# Altium footprint library TVSOP-48.PcbLib: 1 footprints
Each footprint in its own frame and in the unit in brackets; x right, y up, seen from the top. Pads: shape width x height; smd on the part's side, far side on the other; paste and mask are expansions set on the pad; w line width, h text height; cw(c..) or ccw(c..) is an arc to the next point about the centre after c.
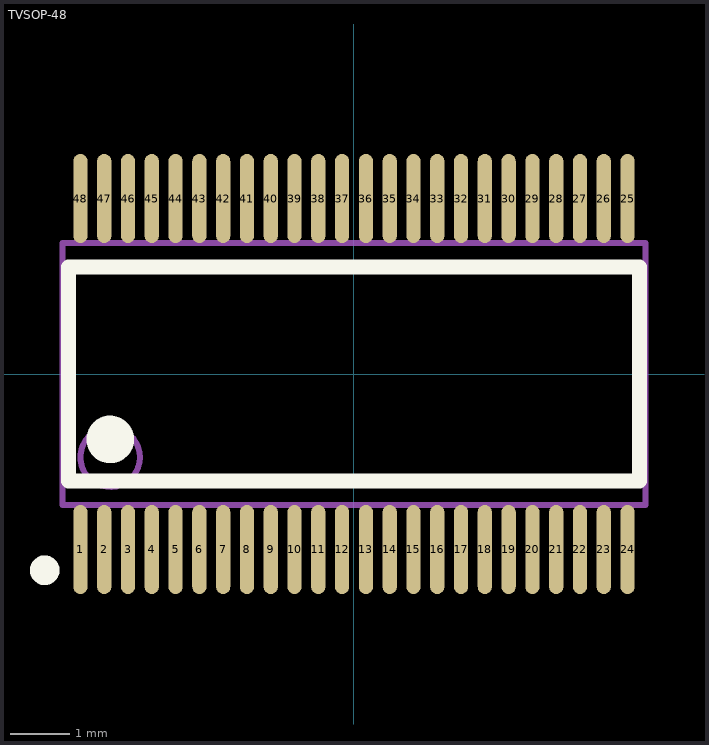
[diagram p0: the footprint, top view; thin cyan lines are the x and y axes]

## TVSOP-48 [mm]
pads (48):
  oval 0.24x1.5 smd mask+0.051: 1(-4.6,-2.95) 2(-4.2,-2.95) 3(-3.8,-2.95) 4(-3.4,-2.95) 5(-3,-2.95) 6(-2.6,-2.95) 7(-2.2,-2.95) 8(-1.8,-2.95) 9(-1.4,-2.95) 10(-1,-2.95) 11(-0.6,-2.95) 12(-0.2,-2.95) 13(0.2,-2.95) 14(0.6,-2.95) 15(1,-2.95) 16(1.4,-2.95) 17(1.8,-2.95) 18(2.2,-2.95) 19(2.6,-2.95) 20(3,-2.95) 21(3.4,-2.95) 22(3.8,-2.95) 23(4.2,-2.95) 24(4.6,-2.95) 25(4.6,2.95) 26(4.2,2.95) 27(3.8,2.95) 28(3.4,2.95) 29(3,2.95) 30(2.6,2.95) 31(2.2,2.95) 32(1.8,2.95) 33(1.4,2.95) 34(1,2.95) 35(0.6,2.95) 36(0.2,2.95) 37(-0.2,2.95) 38(-0.6,2.95) 39(-1,2.95) 40(-1.4,2.95) 41(-1.8,2.95) 42(-2.2,2.95) 43(-2.6,2.95) 44(-3,2.95) 45(-3.4,2.95) 46(-3.8,2.95) 47(-4.2,2.95) 48(-4.6,2.95)
Top Overlay:
  circle w0.25: c-5.2,-3.3 r0.125
  circle w0.4: c-4.1,-1.1 r0.2
  lines w0.254: -4.8,-1.8 4.8,-1.8 4.8,1.8 -4.8,1.8 -4.8,-1.8
Mechanical 13:
  circle w0.1: c-4.1,-1.4 r0.5
  lines w0.1: -4.9,-2.2 -4.9,2.2 4.9,2.2 4.9,-2.2 -4.9,-2.2